# EAGLE library part IR2301 (library IR2301)
High and low side driver
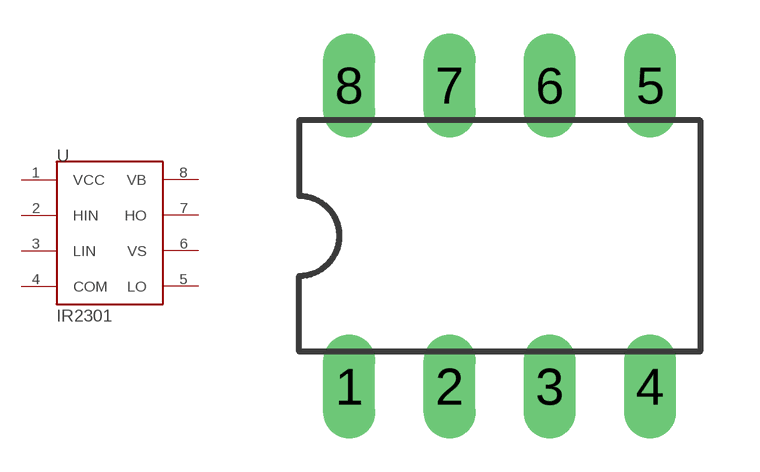
[diagram p0: symbol with the pads of DIL08; footprint DIL08]

Designator prefix U

## IR2301 (AVAILABILITY: Unavailable; DESCRIPTION: High and Low Side Driver, Noninverting Inputs; MF: Infineon; MP: IR2301; PACKAGE: DIP-8 International Rectifier; PRICE: None)  [DIL08]
1  VCC  sup
2  HIN  in
3  LIN  in
4  COM  sup
5  LO  out
6  VS  out
7  HO  out
8  VB  sup

## Footprint DIL08 (pad centres in mm)
Dual In Line Package
drill 0.813 long: 1 -3.81,-3.81; 2 -1.27,-3.81; 3 1.27,-3.81; 4 3.81,-3.81; 5 3.81,3.81; 6 1.27,3.81; 7 -1.27,3.81; 8 -3.81,3.81